# EAGLE library part NJM4558D (library guitar-pedals)
Dual In Line / Socket
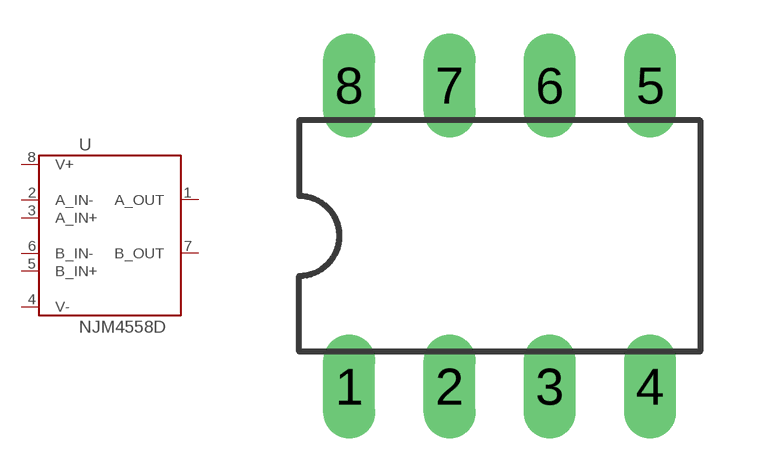
[diagram p1: symbol with the pads of DIL08; footprint DIL08]

Designator prefix U

## NJM4558D  [DIL08]
1  A_OUT  pas
2  A_IN-  pas
3  A_IN+  pas
4  V-  pas
5  B_IN+  pas
6  B_IN-  pas
7  B_OUT  pas
8  V+  pas

## Footprint DIL08 (pad centres in mm)
Dual In Line Package
drill 0.813 long: 1 -3.81,-3.81; 2 -1.27,-3.81; 3 1.27,-3.81; 4 3.81,-3.81; 5 3.81,3.81; 6 1.27,3.81; 7 -1.27,3.81; 8 -3.81,3.81